# EAGLE library part LT1161ISWPBF (library linear_technologies)
Quad Protected High-Side MOSFET Driver
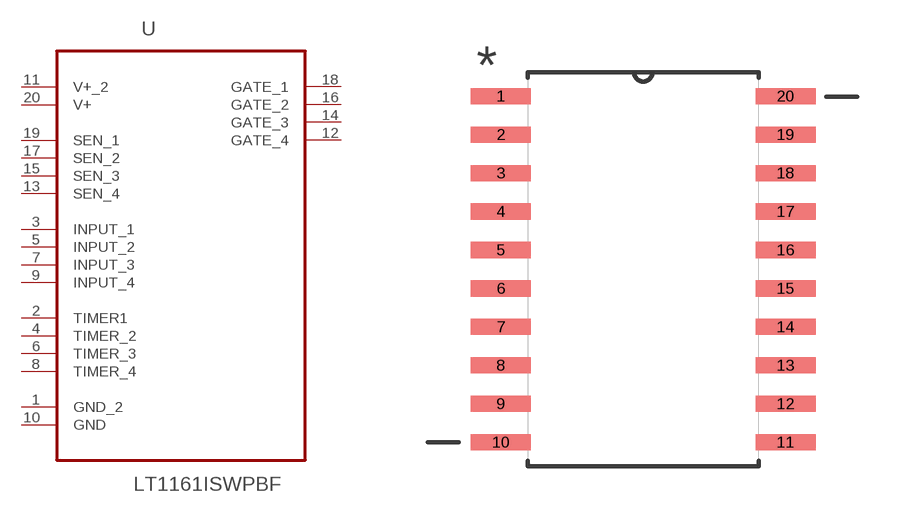
[diagram p0: symbol with the pads of SOIC127P1032X264-20N; footprint SOIC127P1032X264-20N]

Designator prefix U

## LT1161ISWPBF (MPN: LT1161ISW#PBF; OC_FARNELL: 1499449; OC_NEWARK: 57M2271; PACKAGE: SOIC-20; SUPPLIER: Linear Technology)  [SOIC127P1032X264-20N]
1  GND_2  pas
2  TIMER1  in
3  INPUT_1  in
4  TIMER_2  in
5  INPUT_2  in
6  TIMER_3  in
7  INPUT_3  in
8  TIMER_4  in
9  INPUT_4  in
10  GND  pas
11  V+_2  pwr
12  GATE_4  out
13  SEN_4  in
14  GATE_3  out
15  SEN_3  in
16  GATE_2  out
17  SEN_2  in
18  GATE_1  out
19  SEN_1  in
20  V+  pwr

## Footprint SOIC127P1032X264-20N (pad centres in mm)
smd 1.981 x 0.533: 1 -4.699,5.715; 2 -4.699,4.445; 3 -4.699,3.175; 4 -4.699,1.905; 5 -4.699,0.635; 6 -4.699,-0.635; 7 -4.699,-1.905; 8 -4.699,-3.175; 9 -4.699,-4.445; 10 -4.699,-5.715; 11 4.699,-5.715; 12 4.699,-4.445; 13 4.699,-3.175; 14 4.699,-1.905; 15 4.699,-0.635; 16 4.699,0.635; 17 4.699,1.905; 18 4.699,3.175; 19 4.699,4.445; 20 4.699,5.715